# Altium schematic symbol library LM358.SchLib: 1 symbol
Pins are listed as number, name and electrical type; pins without a type are passive.

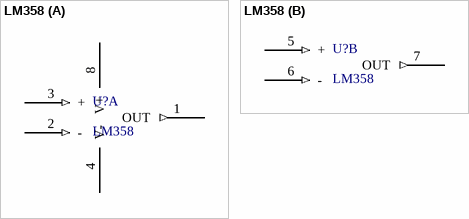
[diagram p0: symbol LM358]

## LM358
designator U?
part A pins: 1 OUT (out), 2 - (in), 3 + (in), 4 V-, 8 V+
part B pins: 5 + (in), 6 - (in), 7 OUT (out)